# Altium footprint library MFRHS8000.PcbLib: 1 footprints
Each footprint in its own frame and in the unit in brackets; x right, y up, seen from the top. Pads: shape width x height; smd on the part's side, far side on the other; paste and mask are expansions set on the pad; w line width, h text height; cw(c..) or ccw(c..) is an arc to the next point about the centre after c.
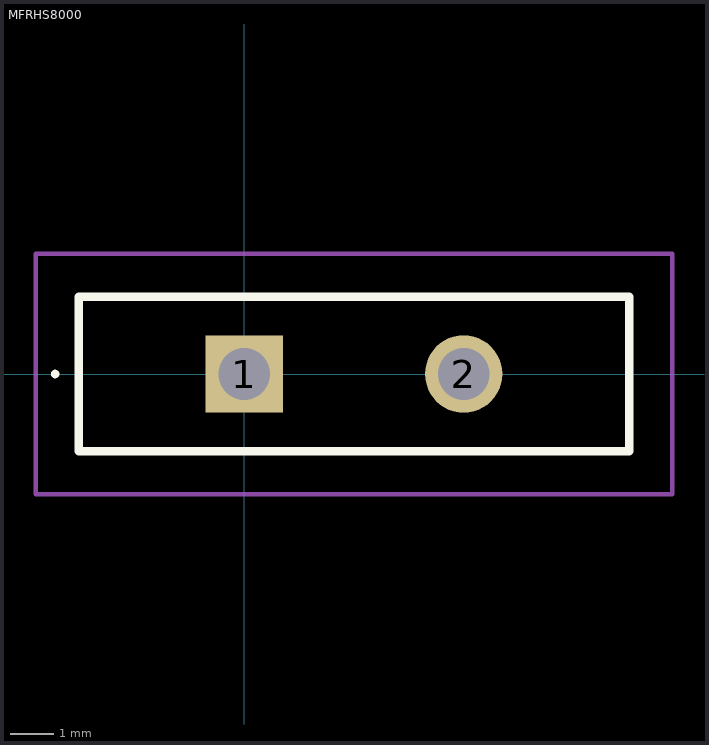
[diagram p0: the footprint, top view; thin cyan lines are the x and y axes]

## MFRHS8000 [mm]
pads (2):
  rect 1.8x1.8 hole 1.2: 1(0,0)
  round 1.8 hole 1.2: 2(5.1,0)
Top Overlay:
  lines w0.1: -4.45,0 cw(c-4.4,0) -4.35,0 ; -4.45,0 -4.45,0 ; -4.45,0 ccw(c-4.4,0) -4.35,0 ; -4.35,0 -4.35,0
  lines w0.2: -3.85,-1.8 8.95,-1.8 8.95,1.8 -3.85,1.8 -3.85,-1.8
Mechanical 15:
  lines w0.1: -3.85,-1.8 8.95,-1.8 8.95,1.8 -3.85,1.8 -3.85,-1.8
Mechanical 20:
  lines w0.1: -4.85,-2.8 9.95,-2.8 9.95,2.8 -4.85,2.8 -4.85,-2.8